# Altium footprint library 0.PCB1.PcbLib: 64 footprints (part 2 of 4)
Each footprint in its own frame and in the unit in brackets; x right, y up, seen from the top. Pads: shape width x height; smd on the part's side, far side on the other; paste and mask are expansions set on the pad; w line width, h text height; cw(c..) or ccw(c..) is an arc to the next point about the centre after c.
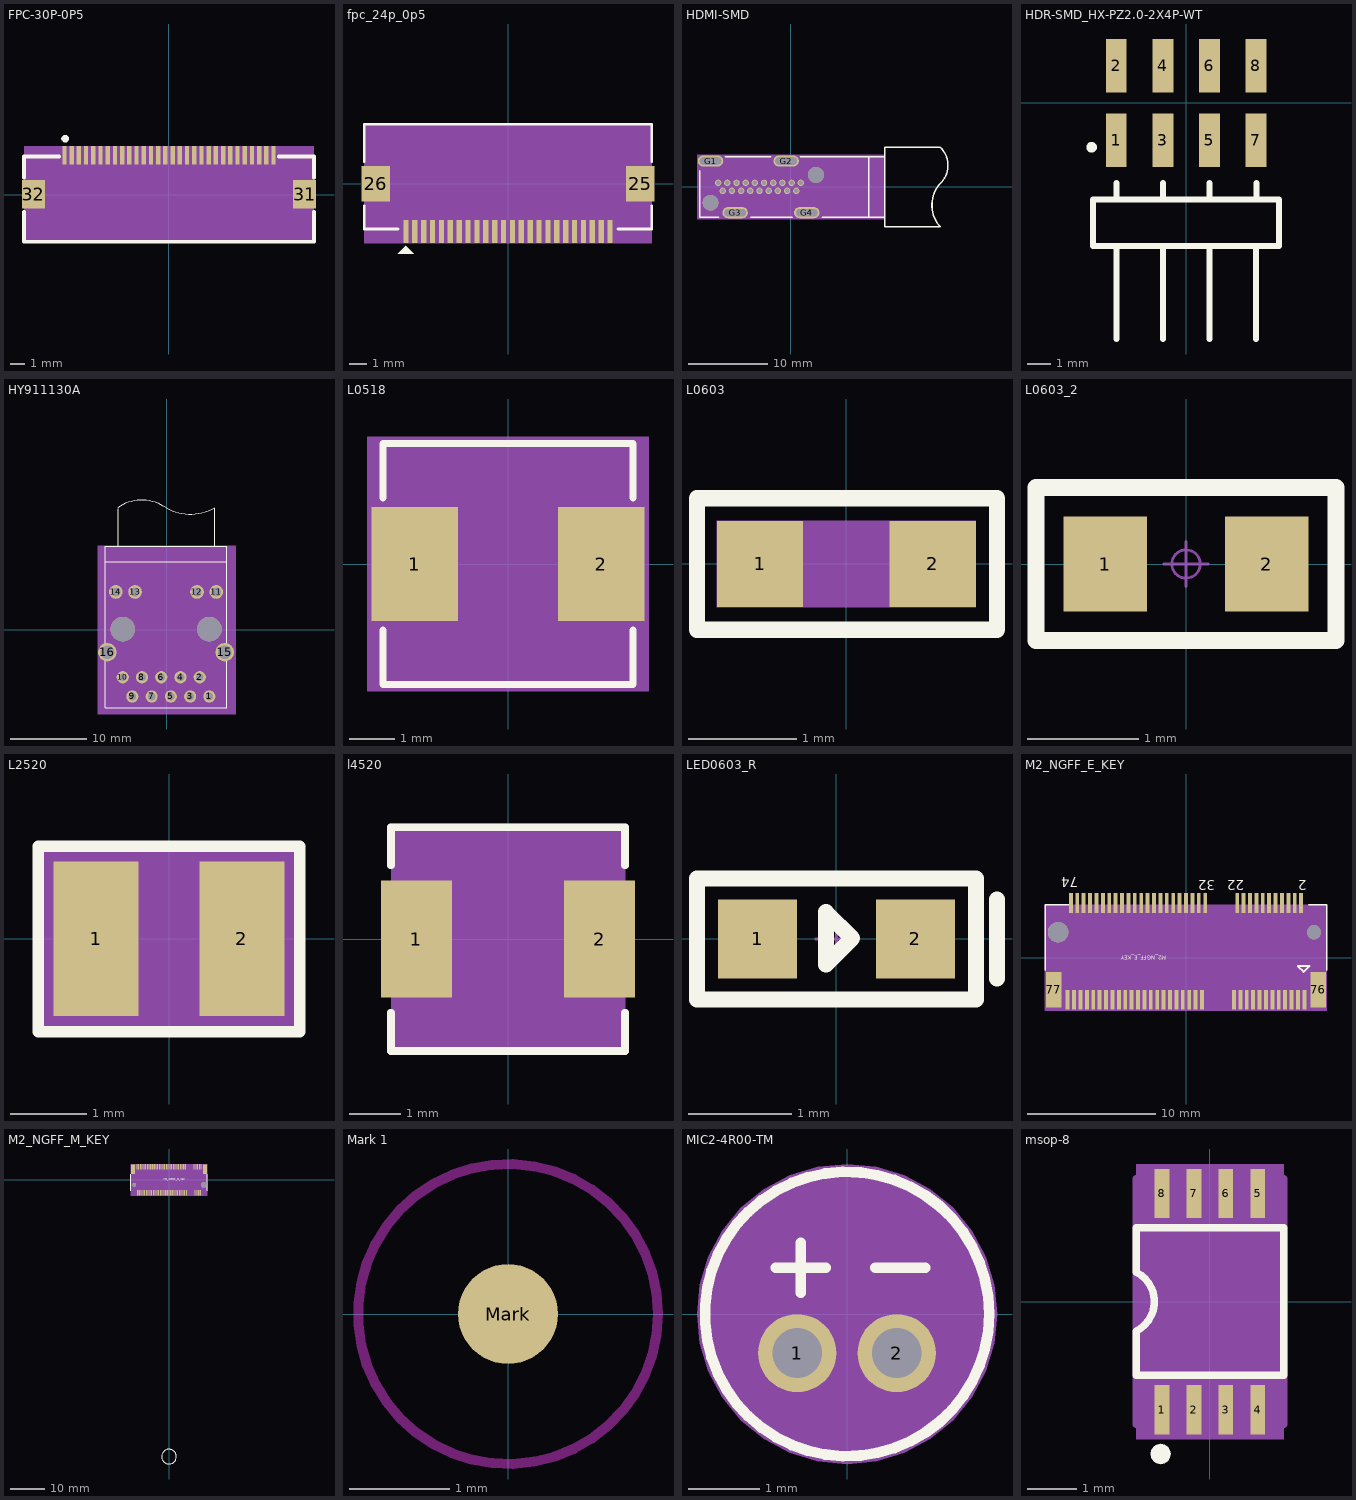
[diagram p1: the footprints below, top view; thin cyan lines are the x and y axes]

## FPC-30P-0P5 [mm] "FPC-30P-0P5"
pads (32):
  rect 0.3x1.3 smd: 1(-7.25,2.733) 2(-6.75,2.733) 3(-6.25,2.733) 4(-5.75,2.733) 5(-5.25,2.733) 6(-4.75,2.733) 7(-4.25,2.733) 8(-3.75,2.733) 9(-3.25,2.733) 10(-2.75,2.733) 11(-2.25,2.733) 12(-1.75,2.733) 13(-1.25,2.733) 14(-0.75,2.733) 15(-0.25,2.733) 16(0.25,2.733) 17(0.75,2.733) 18(1.25,2.733) 19(1.75,2.733) 20(2.25,2.733) 21(2.75,2.733) 22(3.25,2.733) 23(3.75,2.733) 24(4.25,2.733) 25(4.75,2.733) 26(5.25,2.733) 27(5.75,2.733) 28(6.25,2.733) 29(6.75,2.733) 30(7.25,2.733)
  rect 1.6x2 smd: 31(9.4,0.032) 32(-9.4,0.032)
Top Overlay:
  dashed: -7.2,4.137 -7.297,4.118 -7.38,4.063 -7.435,3.98 -7.455,3.882 -7.435,3.785 -7.417,3.757 -7.38,3.702 -7.297,3.647 -7.2,3.628 -7.102,3.647 -7.02,3.702 -6.983,3.757 -6.964,3.785 -6.945,3.882 -6.964,3.98 -7.02,4.063 -7.102,4.118
  lines w0.254: -10.05,-1.199 -10.05,-3.257 ; -10.05,1.164 -10.05,2.653 -7.631,2.653 ; 7.631,2.652 10.05,2.652 10.05,1.164 ; 10.05,-1.199 10.05,-3.268 -10.04,-3.268 -10.05,-3.257 ; -10.05,-3.257 -10.05,-3.257
Top 3D Body:
  region: 10.052,-3.35 10.052,3.35 -10.052,3.35 -10.052,-3.35
3D body: height 3.81, standoff 0, extent -10.052,-3.35 10.052,3.35

## fpc_24p_0p5 [mm] "FPC_24P_0P5"
pads (26):
  rect 0.3x1.3 smd: 1(-5.75,-2.701) 2(-5.25,-2.701) 3(-4.75,-2.701) 4(-4.25,-2.701) 5(-3.75,-2.701) 6(-3.25,-2.701) 7(-2.75,-2.701) 8(-2.25,-2.701) 9(-1.75,-2.701) 10(-1.25,-2.701) 11(-0.75,-2.701) 12(-0.25,-2.701) 13(0.25,-2.701) 14(0.75,-2.701) 15(1.25,-2.701) 16(1.75,-2.701) 17(2.25,-2.701) 18(2.75,-2.701) 19(3.25,-2.701) 20(3.75,-2.701) 21(4.25,-2.701) 22(4.75,-2.701) 23(5.25,-2.701) 24(5.75,-2.701)
  rect 1.6x2 smd: 25(7.45,0.001) 26(-7.45,0.001)
Top Overlay:
  dashed: -6.199,-3.95 -5.301,-3.95 -5.75,-3.501
  lines w0.15: -8.1,-1.25 -8.1,-2.55 -6.2,-2.55 ; -8.1,1.25 -8.1,3.35 8.1,3.35 8.1,1.25 ; 6.2,-2.55 8.1,-2.55 8.1,-1.25
Top 3D Body:
  region: -8.1,-3.35 8.1,-3.35 8.1,3.35 -8.1,3.35
3D body: height 3.81, standoff 0, extent -8.1,-3.35 8.1,3.35

## HDMI-SMD [mm] "HDMI-SMD"
pads (25):
  round 0.8 hole 0.55: 1(1.276,0.5) 2(0.707,-0.5) 3(0.121,0.5) 4(-0.449,-0.5) 5(-1.034,0.5) 6(-1.605,-0.5) 7(-2.189,0.5) 8(-2.761,-0.5) 9(-3.344,0.5) 10(-3.917,-0.5) 11(-4.499,0.5) 12(-5.073,-0.5) 13(-5.654,0.5) 14(-6.229,-0.5) 15(-6.809,0.5) 16(-7.385,-0.5) 17(-7.964,0.5) 18(-8.541,-0.5) 19(-9.119,0.5)
  oval 3.2x1.4 / inner round 1.524 / far side oval 3.2x1.4 hole 2.7 slot 0.9 at 90 deg: G1(-10.074,3.25) G2(-0.574,3.25) G3(-6.974,-3.25) G4(2.026,-3.25)
  round 1.999 hole 1.999 unplated: ""(-10.074,-2) ""(3.176,1.5)
Top Overlay:
  lines w0.2: -11.43,2 -11.43,-3.833 -9.024,-3.833 ; -8.213,3.786 -2.535,3.786 ; -5.024,-3.834 0.176,-3.834 ; 1.233,3.786 11.812,3.786 ; 3.976,-3.834 11.812,-3.834 ; 18.776,5 cw(c16.636,2.7) 18.776,0.4 ccw(c21.856,-2.292) 18.812,-5.024 11.812,-5.024 11.812,4.976 18.812,4.976 ; 11.812,-3.834 9.812,-3.834 9.812,3.786 11.812,3.786 ; 11.812,-3.834 11.812,3.786
Top 3D Body:
  region: -11.776,-4.052 11.776,-4.052 11.776,4.052 -11.776,4.052
3D body: height 3.81, standoff 0, extent -11.776,-4.052 11.776,4.052

## HDR-SMD_HX-PZ2.0-2X4P-WT [mm]
pads (8):
  rect 0.89x2.3 smd paste+0 mask+0.05: 1(-3,-1.6) 2(-3,1.6) 3(-1,-1.6) 4(-1,1.6) 5(1,-1.6) 6(1,1.6) 7(3,-1.6) 8(3,1.6)
Top Overlay:
  circle w0.254: c-4.064,-1.905 r0.1
  lines w0.254: -3.003,-10.15 -3.003,-6.15 ; -2.989,-4.15 -2.989,-3.446 ; -1.003,-10.15 -1.003,-6.15 ; -0.989,-4.15 -0.989,-3.446 ; 0.997,-10.15 0.997,-6.15 ; 1.011,-4.15 1.011,-3.446 ; 3.006,-10.15 3.006,-6.15 ; 3.02,-4.15 3.02,-3.446 ; -4,-6.15 -4,-4.15 4,-4.15 4,-6.15 -4,-6.15

## HY911130A [mm] "HY911130A"
pads (18):
  round 1.6 / inner round 1.524 / far side round 1.6 hole 1: 1(5.629,-8.79) 2(4.359,-6.25) 3(3.089,-8.79) 4(1.819,-6.25) 5(0.549,-8.79) 6(-0.721,-6.25) 7(-1.991,-8.79) 8(-3.261,-6.25) 9(-4.531,-8.79)
  round 1.6 hole 1: 10(-5.801,-6.25)
  round 1.8 / inner round 1.524 / far side round 1.8 hole 1.2: 11(6.534,5) 12(3.994,5) 13(-4.177,5) 14(-6.717,5)
  round 2.43 / inner round 1.524 / far side round 2.43 hole 1.83: 15(7.654,-2.95) 16(-7.836,-2.95)
  round 3.25 hole 3.25 unplated: ""(-5.806,0.1) ""(5.624,0.1)
Top Overlay:
  lines w0.15: -6.492,16 -6.492,11 6.309,11 6.309,16 ; -6.492,16.1 cw(c-3.291,11.5) -0.091,16.1 ccw(c3.109,21.875) 6.309,16.1 ; -8.111,11 7.929,11 7.929,9 ; -8.111,11 -8.111,-10.3 7.929,-10.3 7.929,9 ; -8.111,11 -8.111,9 7.929,9
Bottom Overlay:
  drawing of 17 lines, arcs and shapes, not listed
Top 3D Body:
  region: -9.108,11.1 -9.108,-11.1 9.109,-11.1 9.109,11.1
3D body: height 3.81, standoff 0, extent -9.108,-11.1 9.109,11.1

## L0518 [mm] "L0518"
pads (2):
  rect 1.9x2.5 smd: 1(-2.05,0) 2(2.05,0)
Top Overlay:
  lines w0.15: -2.75,-1.45 -2.75,-2.65 2.75,-2.65 2.75,-1.45 ; -2.75,1.45 -2.75,2.65 2.75,2.65 2.75,1.45
Top 3D Body:
  region: -3.1,2.8 -3.1,-2.8 3.1,-2.8 3.1,2.8
Top Assembly:
  lines w0.15: -2.75,-1.45 -2.75,-2.65 2.75,-2.65 2.75,-1.45 ; -2.75,1.45 -2.75,2.65 2.75,2.65 2.75,1.45
3D body: height 3.81, standoff 0, extent -3.1,-2.8 3.1,2.8

## L0603 [mil] "L0603"
pads (2):
  rect 31.5x31.5 smd: 1(-31.5,0) 2(31.5,0)
Top Overlay:
  lines w6: -54.5,-24 -54.5,24 55,24 55,-24 -54.5,-24
Top 3D Body:
  region: -47.24,-15.75 -47.24,15.75 47.24,15.75 47.24,-15.75
3D body: height 150, standoff 0, extent -47.24,-15.75 47.24,15.75

## L0603_2 [mm]
pads (2):
  rect 0.75x0.85 smd: 1(-0.725,0) 2(0.725,0)
Top Overlay:
  lines w0.152: -1.346,-0.686 1.346,-0.686 1.346,0.686 -1.346,0.686 -1.346,-0.686
Mechanical 15:
  circle w0.025: c0,0 r0.127
  lines w0.025: -0.2,0 0.2,0 ; 0,-0.2 0,0.2
3D body "L0603H08-2S.stp": height 0.8, standoff 0, extent -0.8,-0.4 0.8,0.4

## L2520 [mil] "L2520"
pads (2):
  rect 44x80 smd: 1(-37.75,0) 2(37.75,0)
Top Overlay:
  lines w6: -67.68,-48.15 -67.68,47.92 67.67,47.92 67.67,-48.15 -67.67,-48.15 -67.68,-48.15
Top 3D Body:
  region: -65,-45 65,-45 65,45 -65,45
3D body: height 150, standoff 0, extent -65,-45 65,45

## l4520 [mm] "L4520"
pads (2):
  rect 1.4x2.3 smd: 1(-1.803,-0.002) 2(1.798,-0.002)
Top Overlay:
  lines w0.15: -2.302,-1.452 -2.302,-2.202 2.298,-2.202 2.298,-1.452 ; -2.302,1.448 -2.302,2.198 2.298,2.198 2.298,1.448
Top 3D Body:
  region: -2.302,-2.202 2.303,-2.202 2.303,2.203 -2.302,2.203
Top Assembly:
  lines w0.15: -2.302,-1.452 -2.302,-2.202 2.298,-2.202 2.298,-1.452 ; -2.302,1.448 -2.302,2.198 2.298,2.198 2.298,1.448
3D body: height 3.81, standoff 0, extent -2.302,-2.202 2.303,2.203

## LED0603_R [mil] "红色0603LED"
pads (2):
  rect 30x30 smd: 1(-30,0) 2(30,0)
Top Overlay:
  lines w6: 61,-15 61,15 ; -53,-23 53,-23 53,23 -53,23 -53,-23 ; -4,-9.75 -4,10.25 6,0.25 -4,-9.75
Mechanical 15:
  circle w1: c0,0 r5
  lines w1: -7.88,0 7.87,0 ; 0,-7.88 0,7.87
3D body "LED 0603玻璃罩.": height 0, standoff 0, extent 0,0 0,0
3D body "LED_0603-R.STEP": height 18.36, standoff -0.04, extent -31.49,-15.78 31.5,15.8

## M2_NGFF_E_KEY [mm] "M2_NGFF_E_KEY"
pads (71):
  rect 0.3x1.55 smd: 1(9.25,-3.3) 2(9,4.25) 3(8.75,-3.3) 4(8.5,4.25) 5(8.25,-3.3) 6(8,4.25) 7(7.75,-3.3) 8(7.5,4.25) 9(7.25,-3.3) 10(7,4.25) 11(6.75,-3.3) 12(6.5,4.25) 13(6.25,-3.3) 14(6,4.25) 15(5.75,-3.3) 16(5.5,4.25) 17(5.25,-3.3) 18(5,4.25) 19(4.75,-3.3) 20(4.5,4.25) 21(4.25,-3.3) 22(4,4.25) 23(3.75,-3.3) 32(1.5,4.25) 33(1.25,-3.3) 34(1,4.25) 35(0.75,-3.3) 36(0.5,4.25) 37(0.25,-3.3) 38(0,4.25) 39(-0.25,-3.3) 40(-0.5,4.25) 41(-0.75,-3.3) 42(-1,4.25) 43(-1.25,-3.3) 44(-1.5,4.25) 45(-1.75,-3.3) 46(-2,4.25) 47(-2.25,-3.3) 48(-2.5,4.25) 49(-2.75,-3.3) 50(-3,4.25) 51(-3.25,-3.3) 52(-3.5,4.25) 53(-3.75,-3.3) 54(-4,4.25) 55(-4.25,-3.3) 56(-4.5,4.25) 57(-4.75,-3.3) 58(-5,4.25) 59(-5.25,-3.3) 60(-5.5,4.25) 61(-5.75,-3.3) 62(-6,4.25) 63(-6.25,-3.3) 64(-6.5,4.25) 65(-6.75,-3.3) 66(-7,4.25) 67(-7.25,-3.3) 68(-7.5,4.25) 69(-7.75,-3.3) 70(-8,4.25) 71(-8.25,-3.3) 72(-8.5,4.25) 73(-8.75,-3.3) 74(-9,4.25) 75(-9.25,-3.3)
  rect 1.2x2.75 smd: 76(10.35,-2.525) 77(-10.35,-2.525)
  round 1.6 hole 1.6 unplated: ""(-10,1.975)
  round 1.1 hole 1.1 unplated: ""(10,1.975)
Top Overlay:
  lines w0.15: -11,-0.975 -11,4.125 -9.1,4.125 ; 9.6,4.125 11,4.125 11,-0.975 ; 8.75,-0.675 9.65,-0.675 9.2,-1.125 8.75,-0.675
  text "M2_NGFF_E_KEY" at -1.56,0.15 h0.3
  text "74" at -8.418,6.26 h0.76
  text "2" at 9.45,6.052 h0.76
  text "22" at 4.55,6.052 h0.76
  text "32" at 2.3,6.052 h0.76
Top 3D Body:
  region: 11,4.125 -11,4.125 -11,-4.125 11,-4.125
Mechanical 15:
  text "47" at -2.603,-3.35 h0.25
  text "49" at -3.103,-3.35 h0.25
  text "43" at -1.603,-3.35 h0.25
  text "18" at 4.647,4.25 h0.25
  text "7" at 7.417,-3.5 h0.25
  text "33" at 0.897,-3.35 h0.25
  text "45" at -2.103,-3.35 h0.25
  text "51" at -3.603,-3.35 h0.25
  text "39" at -0.603,-3.35 h0.25
  text "57" at -5.103,-3.35 h0.25
  text "63" at -6.603,-3.35 h0.25
  text "69" at -8.103,-3.35 h0.25
  text "75" at -9.603,-3.35 h0.25
  text "77" at -10.858,-2.525 h0.64
  text "76" at 9.842,-2.525 h0.64
  text "1" at 8.917,-3.5 h0.25
  text "37" at -0.103,-3.35 h0.25
  text "56" at -4.853,4.25 h0.25
  text "52" at -3.853,4.25 h0.25
  text "55" at -4.603,-3.35 h0.25
  text "5" at 7.917,-3.5 h0.25
  text "53" at -4.103,-3.35 h0.25
  text "35" at 0.397,-3.35 h0.25
  text "3" at 8.417,-3.5 h0.25
  text "4" at 8.248,4.25 h0.25
  text "2" at 8.667,4.05 h0.25
  text "74" at -9.353,4.25 h0.25
  text "72" at -8.853,4.25 h0.25
  text "41" at -1.103,-3.35 h0.25
  text "54" at -4.353,4.25 h0.25
  text "42" at -1.353,4.25 h0.25
  text "40" at -0.853,4.25 h0.25
  text "38" at -0.353,4.25 h0.25
  text "66" at -7.353,4.25 h0.25
  text "70" at -8.353,4.25 h0.25
  text "68" at -7.853,4.25 h0.25
  text "20" at 4.147,4.25 h0.25
  text "32" at 1.147,4.25 h0.25
  text "22" at 3.647,4.25 h0.25
  text "36" at 0.147,4.25 h0.25
  text "34" at 0.647,4.25 h0.25
  text "50" at -3.353,4.25 h0.25
  text "21" at 3.714,-3.65 h0.25
  text "23" at 3.214,-3.65 h0.25
  text "19" at 4.214,-3.65 h0.25
  text "17" at 4.714,-3.65 h0.25
  text "15" at 5.214,-3.65 h0.25
  text "13" at 5.714,-3.65 h0.25
  text "11" at 6.214,-3.65 h0.25
  text "9" at 6.917,-3.5 h0.25
  text "71" at -8.603,-3.35 h0.25
  text "73" at -9.103,-3.35 h0.25
  text "59" at -5.603,-3.35 h0.25
  text "61" at -6.103,-3.35 h0.25
  text "65" at -7.103,-3.35 h0.25
  text "67" at -7.603,-3.35 h0.25
  text "64" at -6.853,4.25 h0.25
  text "10" at 6.647,4.25 h0.25
  text "14" at 5.647,4.25 h0.25
  text "12" at 6.147,4.25 h0.25
  text "8" at 7.248,4.25 h0.25
  text "16" at 5.147,4.25 h0.25
  text "6" at 7.748,4.25 h0.25
  text "58" at -5.353,4.25 h0.25
  text "60" at -5.853,4.25 h0.25
  text "48" at -2.853,4.25 h0.25
  text "46" at -2.353,4.25 h0.25
  text "44" at -1.853,4.25 h0.25
  text "62" at -6.353,4.25 h0.25
Top Assembly:
  lines w0.025: -11,-4.125 -11,4.125 11,4.125 11,-4.125 -11,-4.125
3D body: height 3.81, standoff 0, extent -11,-4.125 11,4.125

## M2_NGFF_M_KEY [mm] "M2_NGFF_M_KEY"
pads (71):
  rect 0.3x1.55 smd: 1(-9.25,3.762) 2(-9,-3.687) 3(-8.75,3.762) 4(-8.5,-3.687) 5(-8.25,3.762) 6(-8,-3.687) 7(-7.75,3.762) 8(-7.5,-3.687) 9(-7.25,3.762) 10(-7,-3.687) 11(-6.75,3.762) 12(-6.5,-3.687) 13(-6.25,3.762) 14(-6,-3.687) 15(-5.75,3.762) 16(-5.5,-3.687) 17(-5.25,3.762) 18(-5,-3.687) 19(-4.75,3.762) 20(-4.5,-3.687) 21(-4.25,3.762) 22(-4,-3.687) 23(-3.75,3.762) 24(-3.5,-3.687) 25(-3.25,3.762) 26(-3,-3.687) 27(-2.75,3.762) 28(-2.5,-3.687) 29(-2.25,3.762) 30(-2,-3.687) 31(-1.75,3.762) 32(-1.5,-3.687) 33(-1.25,3.762) 34(-1,-3.687) 35(-0.75,3.762) 36(-0.5,-3.687) 37(-0.25,3.762) 38(0,-3.687) 39(0.25,3.762) 40(0.5,-3.687) 41(0.75,3.762) 42(1,-3.687) 43(1.25,3.762) 44(1.5,-3.687) 45(1.75,3.762) 46(2,-3.687) 47(2.25,3.762) 48(2.5,-3.687) 49(2.75,3.762) 50(3,-3.687) 51(3.25,3.762) 52(3.5,-3.687) 53(3.75,3.762) 54(4,-3.687) 55(4.25,3.762) 56(4.5,-3.687) 57(4.75,3.762) 58(5,-3.687) 67(7.25,3.762) 68(7.5,-3.687) 69(7.75,3.762) 70(8,-3.687) 71(8.25,3.762) 72(8.5,-3.687) 73(8.75,3.762) 74(9,-3.687) 75(9.25,3.762)
  rect 1.2x2.75 smd: 76(10.35,3.062) 77(-10.35,3.062)
  round 1.1 hole 1.1 unplated: ""(-10,-1.438)
  round 1.6 hole 1.6 unplated: ""(10,-1.438)
Top Overlay:
  circle w0.127: c0,-79.688 r2.11
  lines w0.127: -10.95,-3.128 -10.95,1.608 ; 10.95,-3.128 10.95,1.608
  text "M2_NGFF_M_KEY" at -1.56,-0.15 h0.3
Top 3D Body:
  region: -10.95,-4.563 10.95,-4.563 10.95,4.563 -10.95,4.563
Mechanical 15:
  text "31" at -2.258,3.762 h0.64
  text "29" at -2.758,3.762 h0.64
  text "77" at -10.858,3.062 h0.64
  text "76" at 9.842,3.062 h0.64
  text "3" at -9.004,3.762 h0.64
  text "9" at -7.504,3.762 h0.64
  text "15" at -6.258,3.762 h0.64
  text "21" at -4.758,3.762 h0.64
  text "71" at 7.692,3.437 h0.64
  text "75" at 8.792,3.437 h0.64
  text "27" at -3.258,3.762 h0.64
  text "33" at -1.758,3.762 h0.64
  text "39" at -0.258,3.762 h0.64
  text "57" at 4.242,3.762 h0.64
  text "51" at 2.742,3.762 h0.64
  text "45" at 1.242,3.762 h0.64
  text "73" at 8.292,3.437 h0.64
  text "1" at -9.504,3.762 h0.64
  text "47" at 1.742,3.762 h0.64
  text "37" at -0.758,3.762 h0.64
  text "2" at -9.254,-3.687 h0.64
  text "4" at -8.754,-3.687 h0.64
  text "12" at -7.008,-3.687 h0.64
  text "14" at -6.508,-3.687 h0.64
  text "16" at -6.008,-3.687 h0.64
  text "18" at -5.508,-3.687 h0.64
  text "74" at 8.592,-3.963 h0.64
  text "70" at 7.392,-3.962 h0.64
  text "72" at 7.992,-3.962 h0.64
  text "35" at -1.258,3.762 h0.64
  text "49" at 2.242,3.762 h0.64
  text "38" at -0.508,-3.687 h0.64
  text "50" at 2.492,-3.687 h0.64
  text "10" at -7.508,-3.687 h0.64
  text "55" at 3.742,3.762 h0.64
  text "53" at 3.242,3.762 h0.64
  text "52" at 2.992,-3.687 h0.64
  text "43" at 0.742,3.762 h0.64
  text "54" at 3.492,-3.687 h0.64
  text "41" at 0.242,3.762 h0.64
  text "68" at 6.792,-3.963 h0.64
  text "13" at -6.758,3.762 h0.64
  text "25" at -3.758,3.762 h0.64
  text "11" at -7.258,3.762 h0.64
  text "23" at -4.258,3.762 h0.64
  text "7" at -8.004,3.762 h0.64
  text "19" at -5.258,3.762 h0.64
  text "5" at -8.504,3.762 h0.64
  text "17" at -5.758,3.762 h0.64
  text "32" at -2.008,-3.687 h0.64
  text "30" at -2.508,-3.687 h0.64
  text "28" at -3.008,-3.687 h0.64
  text "26" at -3.508,-3.687 h0.64
  text "24" at -4.008,-3.687 h0.64
  text "22" at -4.508,-3.687 h0.64
  text "20" at -5.008,-3.687 h0.64
  text "8" at -7.754,-3.687 h0.64
  text "67" at 6.392,3.437 h0.64
  text "48" at 1.992,-3.687 h0.64
  text "46" at 1.492,-3.687 h0.64
  text "44" at 0.992,-3.687 h0.64
  text "42" at 0.492,-3.687 h0.64
  text "40" at -0.008,-3.687 h0.64
  text "36" at -1.008,-3.687 h0.64
  text "34" at -1.508,-3.687 h0.64
  text "6" at -8.254,-3.687 h0.64
  text "58" at 4.492,-3.687 h0.64
  text "56" at 3.992,-3.687 h0.64
  text "69" at 7.292,3.437 h0.64
3D body: height 3.81, standoff 0, extent -10.95,-4.563 10.95,4.563

## Mark 1 [mm] "光学定位点，直径1mm"
pads (1):
  round 1 smd paste-1 mask+0.7: Mark(0,0)
Keep-Out Layer:
  circle w0.1: c0,0 r1.5

## MIC2-4R00-TM [mm] "MIC2-4R00-TM"
pads (2):
  round 1.1 hole 0.7: 1(-0.7,-0.55) 2(0.7,-0.55)
Top Overlay:
  circle w0.15: c0,0 r2
  lines w0.15: -1,0.65 -0.3,0.65 ; -0.65,0.3 -0.65,1 ; 0.4,0.65 1.1,0.65
Top 3D Body:
  region: 2.11,0 2.07,0.412 1.95,0.808 1.755,1.172 1.492,1.492 1.172,1.755 0.808,1.95 0.412,2.07 0,2.11 -0.412,2.07 -0.808,1.95 -1.051,1.82 -1.172,1.755 -1.492,1.492 -1.755,1.172 -1.95,0.808 -2.07,0.412 -2.11,0 -2.07,-0.412 -1.95,-0.808 -1.755,-1.172 -1.492,-1.492 -1.172,-1.755 -1.051,-1.82 -0.808,-1.95 -0.412,-2.07 0,-2.11 0.412,-2.07 0.808,-1.95 1.172,-1.755 1.492,-1.492 1.755,-1.172 1.95,-0.808 2.07,-0.412
Top Assembly:
  circle w0.15: c0,0 r2
3D body: height 3.81, standoff 0, extent -2.11,-2.11 2.11,2.11

## msop-8 [mm] "MSOP-8"
pads (8):
  rect 0.3x1 smd: 1(-0.975,-2.2) 2(-0.325,-2.2) 3(0.325,-2.2) 4(0.975,-2.2) 5(0.975,2.2) 6(0.325,2.2) 7(-0.325,2.2) 8(-0.975,2.2)
Top Overlay:
  dashed: -0.796,-3.1 -0.812,-3.022 -0.856,-2.956 -0.922,-2.912 -1,-2.896 -1.078,-2.912 -1.1,-2.926 -1.144,-2.956 -1.188,-3.022 -1.204,-3.1 -1.188,-3.178 -1.144,-3.244 -1.1,-3.274 -1.078,-3.288 -1,-3.304 -0.922,-3.288 -0.856,-3.244 -0.812,-3.178
  lines w0.15: -1.5,-1.5 -1.5,-0.6 ccw(c-1.8,0) -1.5,0.6 -1.5,1.5 1.5,1.5 1.5,-1.5 -1.5,-1.5
Top 3D Body:
  region: -1.5,2.8 -1.5,-2.8 1.5,-2.8 1.5,2.8
Top Assembly:
  lines w0.15: -1.5,-2.5 -1.5,2.5 1.5,2.5 1.5,-2.5 -1.5,-2.5 ; -1.5,-1.5 -1.5,1.5 1.5,1.5 1.5,-1.5 -1.5,-1.5
3D body: height 3.81, standoff 0, extent -1.5,-2.8 1.5,2.8